# EAGLE library part A13 (library kmod-testing)
Allwinner A13
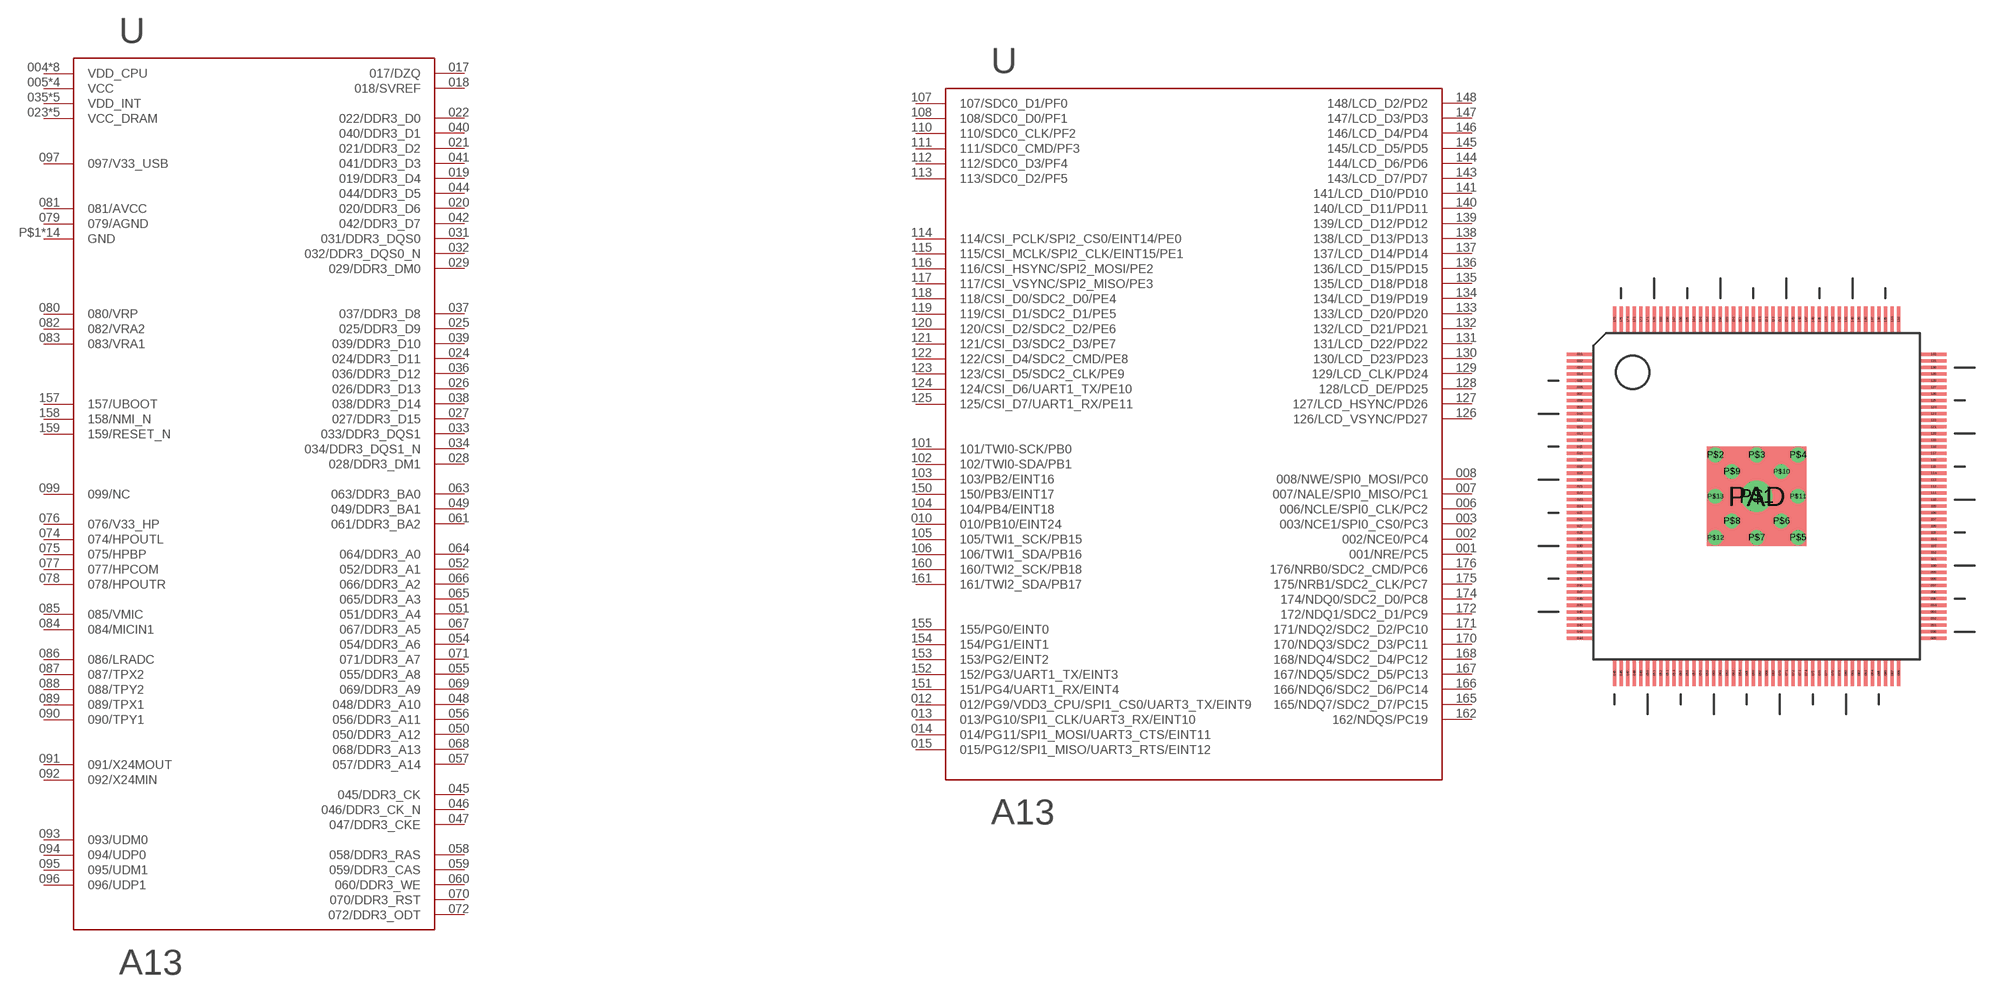
[diagram p10: symbol with the pads of TQFP176_0.4; footprint TQFP176_0.4]

Designator prefix -

## A13  [TQFP176_0.4]
001  001/NRE/PC5
002  002/NCE0/PC4
003  003/NCE1/SPI0_CS0/PC3
004  VDD_CPU
005  VCC
006  006/NCLE/SPI0_CLK/PC2
007  007/NALE/SPI0_MISO/PC1
008  008/NWE/SPI0_MOSI/PC0
009  VDD_CPU
010  010/PB10/EINT24
011  VDD_CPU
012  012/PG9/VDD3_CPU/SPI1_CS0/UART3_TX/EINT9
013  013/PG10/SPI1_CLK/UART3_RX/EINT10
014  014/PG11/SPI1_MOSI/UART3_CTS/EINT11
015  015/PG12/SPI1_MISO/UART3_RTS/EINT12
016  VDD_CPU
017  017/DZQ
018  018/SVREF
019  019/DDR3_D4
020  020/DDR3_D6
021  021/DDR3_D2
022  022/DDR3_D0
023  VCC_DRAM
024  024/DDR3_D11
025  025/DDR3_D9
026  026/DDR3_D13
027  027/DDR3_D15
028  028/DDR3_DM1
029  029/DDR3_DM0
030  VCC_DRAM
031  031/DDR3_DQS0
032  032/DDR3_DQS0_N
033  033/DDR3_DQS1
034  034/DDR3_DQS1_N
035  VDD_INT
036  036/DDR3_D12
037  037/DDR3_D8
038  038/DDR3_D14
039  039/DDR3_D10
040  040/DDR3_D1
041  041/DDR3_D3
042  042/DDR3_D7
043  VCC_DRAM
044  044/DDR3_D5
045  045/DDR3_CK
046  046/DDR3_CK_N
047  047/DDR3_CKE
048  048/DDR3_A10
049  049/DDR3_BA1
050  050/DDR3_A12
051  051/DDR3_A4
052  052/DDR3_A1
053  VCC_DRAM
054  054/DDR3_A6
055  055/DDR3_A8
056  056/DDR3_A11
057  057/DDR3_A14
058  058/DDR3_RAS
059  059/DDR3_CAS
060  060/DDR3_WE
061  061/DDR3_BA2
062  VCC_DRAM
063  063/DDR3_BA0
064  064/DDR3_A0
065  065/DDR3_A3
066  066/DDR3_A2
067  067/DDR3_A5
068  068/DDR3_A13
069  069/DDR3_A9
070  070/DDR3_RST
071  071/DDR3_A7
072  072/DDR3_ODT
073  VDD_INT
074  074/HPOUTL
075  075/HPBP
076  076/V33_HP
077  077/HPCOM
078  078/HPOUTR
079  079/AGND
080  080/VRP
081  081/AVCC
082  082/VRA2
083  083/VRA1
084  084/MICIN1
085  085/VMIC
086  086/LRADC
087  087/TPX2
088  088/TPY2
089  089/TPX1
090  090/TPY1
091  091/X24MOUT
092  092/X24MIN
093  093/UDM0
094  094/UDP0
095  095/UDM1
096  096/UDP1
097  097/V33_USB
098  VDD_INT
099  099/NC
100  VCC
101  101/TWI0-SCK/PB0
102  102/TWI0-SDA/PB1
103  103/PB2/EINT16
104  104/PB4/EINT18
105  105/TWI1_SCK/PB15
106  106/TWI1_SDA/PB16
107  107/SDC0_D1/PF0
108  108/SDC0_D0/PF1
109  VDD_INT
110  110/SDC0_CLK/PF2
111  111/SDC0_CMD/PF3
112  112/SDC0_D3/PF4
113  113/SDC0_D2/PF5
114  114/CSI_PCLK/SPI2_CS0/EINT14/PE0
115  115/CSI_MCLK/SPI2_CLK/EINT15/PE1
116  116/CSI_HSYNC/SPI2_MOSI/PE2
117  117/CSI_VSYNC/SPI2_MISO/PE3
118  118/CSI_D0/SDC2_D0/PE4
119  119/CSI_D1/SDC2_D1/PE5
120  120/CSI_D2/SDC2_D2/PE6
121  121/CSI_D3/SDC2_D3/PE7
122  122/CSI_D4/SDC2_CMD/PE8
123  123/CSI_D5/SDC2_CLK/PE9
124  124/CSI_D6/UART1_TX/PE10
125  125/CSI_D7/UART1_RX/PE11
126  126/LCD_VSYNC/PD27
127  127/LCD_HSYNC/PD26
128  128/LCD_DE/PD25
129  129/LCD_CLK/PD24
130  130/LCD_D23/PD23
131  131/LCD_D22/PD22
132  132/LCD_D21/PD21
133  133/LCD_D20/PD20
134  134/LCD_D19/PD19
135  135/LCD_D18/PD18
136  136/LCD_D15/PD15
137  137/LCD_D14/PD14
138  138/LCD_D13/PD13
139  139/LCD_D12/PD12
140  140/LCD_D11/PD11
141  141/LCD_D10/PD10
142  VCC
143  143/LCD_D7/PD7
144  144/LCD_D6/PD6
145  145/LCD_D5/PD5
146  146/LCD_D4/PD4
147  147/LCD_D3/PD3
148  148/LCD_D2/PD2
149  VDD_INT
150  150/PB3/EINT17
151  151/PG4/UART1_RX/EINT4
152  152/PG3/UART1_TX/EINT3
153  153/PG2/EINT2
154  154/PG1/EINT1
155  155/PG0/EINT0
156  VDD_CPU
157  157/UBOOT
158  158/NMI_N
159  159/RESET_N
160  160/TWI2_SCK/PB18
161  161/TWI2_SDA/PB17
162  162/NDQS/PC19
163  VCC
164  VDD_CPU
165  165/NDQ7/SDC2_D7/PC15
166  166/NDQ6/SDC2_D6/PC14
167  167/NDQ5/SDC2_D5/PC13
168  168/NDQ4/SDC2_D4/PC12
169  VDD_CPU
170  170/NDQ3/SDC2_D3/PC11
171  171/NDQ2/SDC2_D2/PC10
172  172/NDQ1/SDC2_D1/PC9
173  VDD_CPU
174  174/NDQ0/SDC2_D0/PC8
175  175/NRB1/SDC2_CLK/PC7
176  176/NRB0/SDC2_CMD/PC6
P$1  GND
P$2  GND
P$3  GND
P$4  GND
P$5  GND
P$6  GND
P$7  GND
P$8  GND
P$9  GND
P$10  GND
P$11  GND
P$12  GND
P$13  GND
PAD  GND

## Footprint TQFP176_0.4 (pad centres in mm)
176-pin, 0.4mm-pitch QFP mostly based on IPC-SM-782, but made the pads slightly thinner to increase solder mask tracks.
smd 1.6 x 0.2: 001 -10.7,8.6; 002 -10.7,8.2; 003 -10.7,7.8; 004 -10.7,7.4; 005 -10.7,7; 006 -10.7,6.6; 007 -10.7,6.2; 008 -10.7,5.8; 009 -10.7,5.4; 010 -10.7,5; 011 -10.7,4.6; 012 -10.7,4.2; 013 -10.7,3.8; 014 -10.7,3.4; 015 -10.7,3; 016 -10.7,2.6; 017 -10.7,2.2; 018 -10.7,1.8; 019 -10.7,1.4; 020 -10.7,1; 021 -10.7,0.6; 022 -10.7,0.2; 023 -10.7,-0.2; 024 -10.7,-0.6; 025 -10.7,-1; 026 -10.7,-1.4; 027 -10.7,-1.8; 028 -10.7,-2.2; 029 -10.7,-2.6; 030 -10.7,-3; 031 -10.7,-3.4; 032 -10.7,-3.8; 033 -10.7,-4.2; 034 -10.7,-4.6; 035 -10.7,-5; 036 -10.7,-5.4; 037 -10.7,-5.8; 038 -10.7,-6.2; 039 -10.7,-6.6; 040 -10.7,-7; 041 -10.7,-7.4; 042 -10.7,-7.8; 043 -10.7,-8.2; 044 -10.7,-8.6; 089 10.7,-8.6; 090 10.7,-8.2; 091 10.7,-7.8; 092 10.7,-7.4; 093 10.7,-7; 094 10.7,-6.6; 095 10.7,-6.2; 096 10.7,-5.8; 097 10.7,-5.4; 098 10.7,-5; 099 10.7,-4.6; 100 10.7,-4.2; 101 10.7,-3.8; 102 10.7,-3.4; 103 10.7,-3; 104 10.7,-2.6; 105 10.7,-2.2; 106 10.7,-1.8; 107 10.7,-1.4; 108 10.7,-1; 109 10.7,-0.6; 110 10.7,-0.2; 111 10.7,0.2; 112 10.7,0.6; 113 10.7,1; 114 10.7,1.4; 115 10.7,1.8; 116 10.7,2.2; 117 10.7,2.6; 118 10.7,3; 119 10.7,3.4; 120 10.7,3.8; 121 10.7,4.2; 122 10.7,4.6; 123 10.7,5; 124 10.7,5.4; 125 10.7,5.8; 126 10.7,6.2; 127 10.7,6.6; 128 10.7,7; 129 10.7,7.4; 130 10.7,7.8; 131 10.7,8.2; 132 10.7,8.6
smd 0.2 x 1.6: 045 -8.6,-10.7; 046 -8.2,-10.7; 047 -7.8,-10.7; 048 -7.4,-10.7; 049 -7,-10.7; 050 -6.6,-10.7; 051 -6.2,-10.7; 052 -5.8,-10.7; 053 -5.4,-10.7; 054 -5,-10.7; 055 -4.6,-10.7; 056 -4.2,-10.7; 057 -3.8,-10.7; 058 -3.4,-10.7; 059 -3,-10.7; 060 -2.6,-10.7; 061 -2.2,-10.7; 062 -1.8,-10.7; 063 -1.4,-10.7; 064 -1,-10.7; 065 -0.6,-10.7; 066 -0.2,-10.7; 067 0.2,-10.7; 068 0.6,-10.7; 069 1,-10.7; 070 1.4,-10.7; 071 1.8,-10.7; 072 2.2,-10.7; 073 2.6,-10.7; 074 3,-10.7; 075 3.4,-10.7; 076 3.8,-10.7; 077 4.2,-10.7; 078 4.6,-10.7; 079 5,-10.7; 080 5.4,-10.7; 081 5.8,-10.7; 082 6.2,-10.7; 083 6.6,-10.7; 084 7,-10.7; 085 7.4,-10.7; 086 7.8,-10.7; 087 8.2,-10.7; 088 8.6,-10.7; 133 8.6,10.7; 134 8.2,10.7; 135 7.8,10.7; 136 7.4,10.7; 137 7,10.7; 138 6.6,10.7; 139 6.2,10.7; 140 5.8,10.7; 141 5.4,10.7; 142 5,10.7; 143 4.6,10.7; 144 4.2,10.7; 145 3.8,10.7; 146 3.4,10.7; 147 3,10.7; 148 2.6,10.7; 149 2.2,10.7; 150 1.8,10.7; 151 1.4,10.7; 152 1,10.7; 153 0.6,10.7; 154 0.2,10.7; 155 -0.2,10.7; 156 -0.6,10.7; 157 -1,10.7; 158 -1.4,10.7; 159 -1.8,10.7; 160 -2.2,10.7; 161 -2.6,10.7; 162 -3,10.7; 163 -3.4,10.7; 164 -3.8,10.7; 165 -4.2,10.7; 166 -4.6,10.7; 167 -5,10.7; 168 -5.4,10.7; 169 -5.8,10.7; 170 -6.2,10.7; 171 -6.6,10.7; 172 -7,10.7; 173 -7.4,10.7; 174 -7.8,10.7; 175 -8.2,10.7; 176 -8.6,10.7
drill 1.27: P$1 0,0
drill 0.381: P$2 -2.5,2.5; P$3 0,2.5; P$4 2.5,2.5; P$5 2.5,-2.5; P$6 1.5,-1.5; P$7 0,-2.5; P$8 -1.5,-1.5; P$9 -1.5,1.5; P$10 1.5,1.5; P$11 2.5,0; P$12 -2.5,-2.5; P$13 -2.5,0
smd 6 x 6: PAD 0,0